# Altium footprint library 0.96OLEDIIC_2024-05-031.PcbLib: 1 footprints
Each footprint in its own frame and in the unit in brackets; x right, y up, seen from the top. Pads: shape width x height; smd on the part's side, far side on the other; paste and mask are expansions set on the pad; w line width, h text height; cw(c..) or ccw(c..) is an arc to the next point about the centre after c.
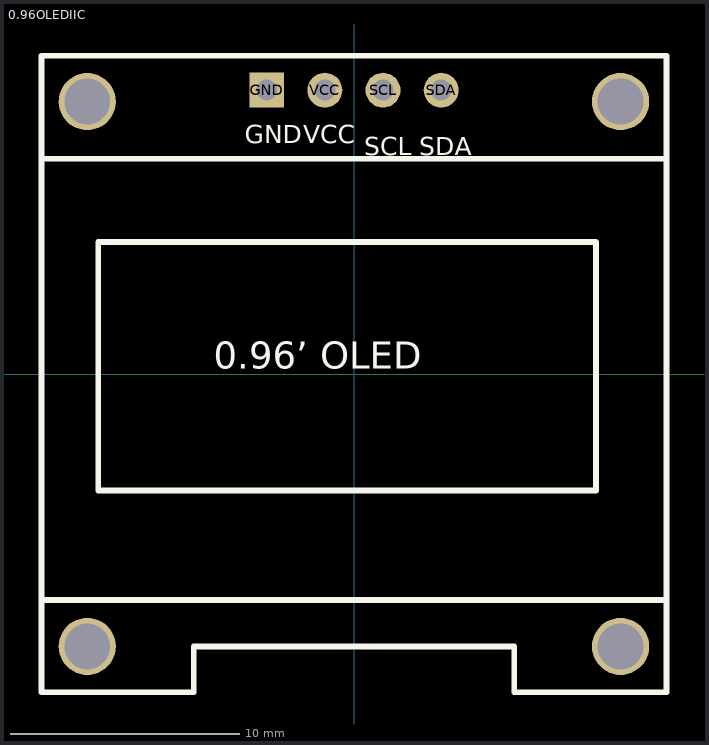
[diagram p0: the footprint, top view; thin cyan lines are the x and y axes]

## 0.96OLEDIIC [mm]
pads (8):
  rect 1.524x1.524 hole 0.914 paste+0 mask+0.102: GND(-3.812,12.4)
  round 1.524 hole 0.914 paste+0 mask+0.102: SCL(1.268,12.4) SDA(3.808,12.4) VCC(-1.272,12.4)
  round 2.5 hole 2 paste+0 mask+0.5: ""(-11.653,-11.9) ""(-11.653,11.9) ""(11.648,-11.9) ""(11.648,11.9)
Top Overlay:
  lines w0.254: -13.652,-13.9 -7.003,-13.9 -7.002,-11.9 6.998,-11.9 6.998,-13.9 13.648,-13.9 13.648,13.9 -13.652,13.9 -13.652,-13.9 ; -13.652,-9.868 -13.652,9.4 13.652,9.4 13.652,-9.868 -13.652,-9.868 ; -11.174,-5.092 -11.174,5.772 10.569,5.772 10.569,-5.092 -11.174,-5.092
  text "0.96’ OLED" at -6.124,-0.161 h2.03
  text "SDA" at 2.857,9.563 h0.8
  text "SCL" at 0.445,9.563 h0.8
  text "VCC" at -2.222,10.071 h0.8
  text "GND" at -4.763,10.071 h0.8